# Altium integrated library ECS-160-20-30B-TR.IntLib: 1 symbol
Pins are listed as number, name and electrical type; pins without a type are passive.

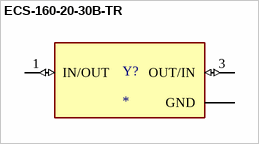
[diagram p0: symbol ECS-160-20-30B-TR]

## ECS-160-20-30B-TR
designator Y?
The ECX-53B is a miniature SMD Crystal with a 3.2 x 5 mm footprint. This package is ideal for todays compact wireless applications where board space is critical.; MP: ECS-160-20-30B-TR; Package: None; Price: None; Value: *; Availability: Unavailable
footprint XTAL_ECS-160-20-30B-TR
pins: 1 IN/OUT (io), 2 GND (power), 3 OUT/IN (io), 4 GND (power)